# EAGLE library part MAX561 (library Traficon)
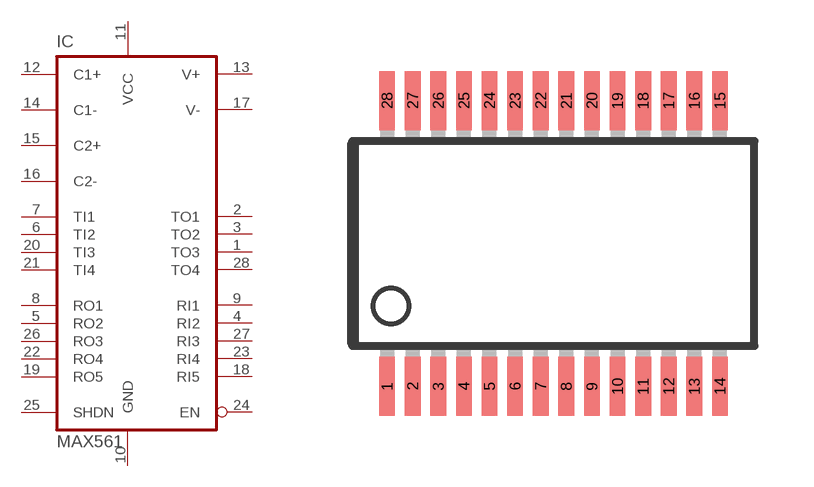
[diagram p99: symbol with the pads of SSOP28; footprint SSOP28]

Designator prefix IC

## MAX561CAI  [SSOP28]
1  TO3
2  TO1
3  TO2
4  RI2
5  RO2
6  TI2
7  TI1
8  RO1
9  RI1
10  GND
11  VCC
12  C1+
13  V+
14  C1-
15  C2+
16  C2-
17  V-
18  RI5
19  RO5
20  TI3
21  TI4
22  RO4
23  RI4
24  EN
25  SHDN
26  RO3
27  RI3
28  TO4

## Footprint SSOP28 (pad centres in mm)
Shrink Small Outline Package package type SS
smd 0.4 x 1.5: 1 -4.225,-3.625; 2 -3.575,-3.625; 3 -2.925,-3.625; 4 -2.275,-3.625; 5 -1.625,-3.625; 6 -0.975,-3.625; 7 -0.325,-3.625; 8 0.325,-3.625; 9 0.975,-3.625; 10 1.625,-3.625; 11 2.275,-3.625; 12 2.925,-3.625; 13 3.575,-3.625; 14 4.225,-3.625; 15 4.225,3.625; 16 3.575,3.625; 17 2.925,3.625; 18 2.275,3.625; 19 1.625,3.625; 20 0.975,3.625; 21 0.325,3.625; 22 -0.325,3.625; 23 -0.975,3.625; 24 -1.625,3.625; 25 -2.275,3.625; 26 -2.925,3.625; 27 -3.575,3.625; 28 -4.225,3.625